# Altium schematic symbol library XSS_IC.SchLib: 440 symbols (part 1 of 4)
Pins are listed as number, name and electrical type; pins without a type are passive.

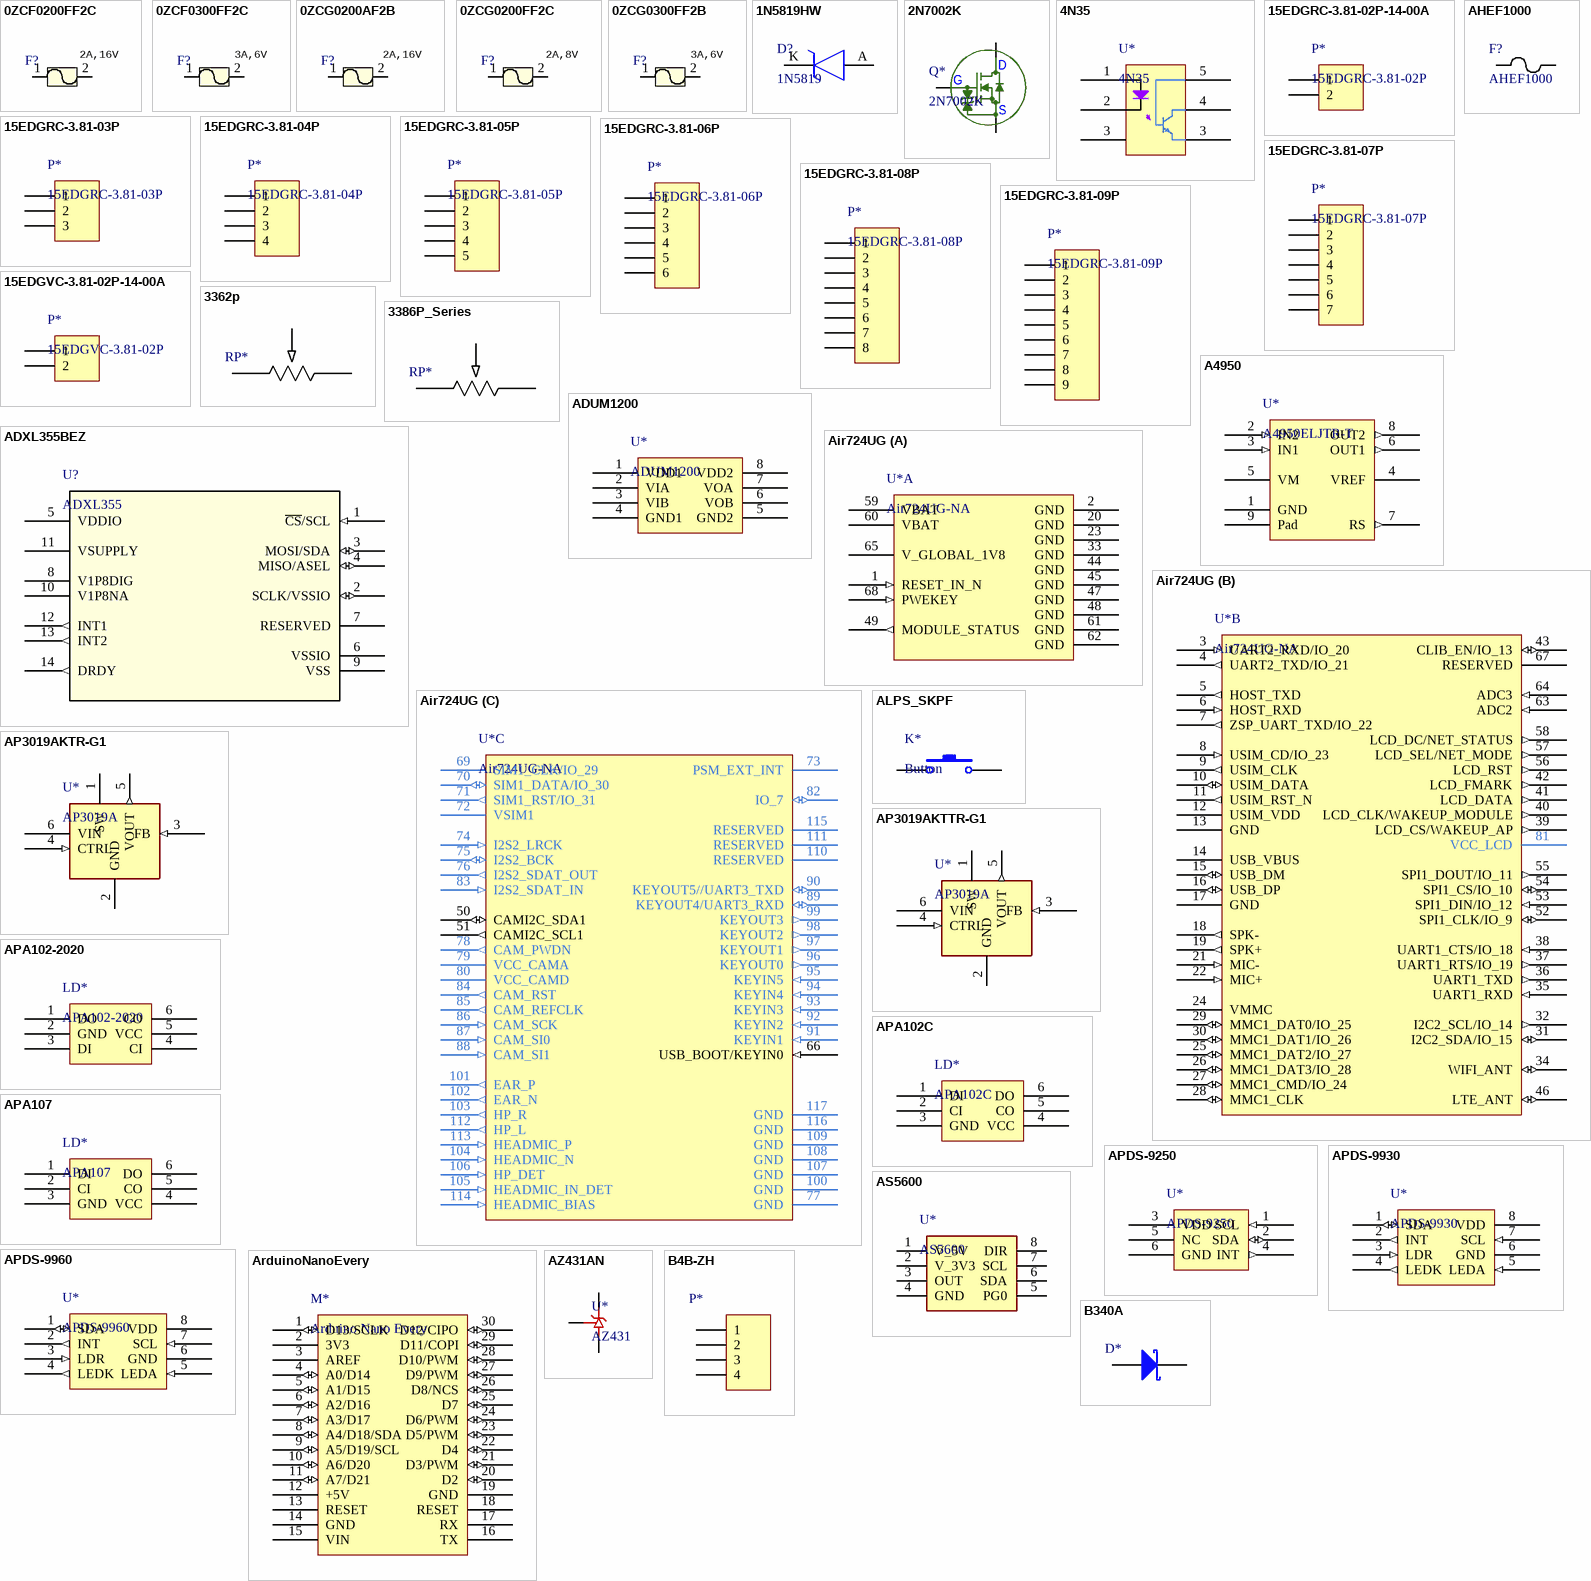
[diagram p0: symbols 0ZCF0200FF2C to B340A]

## 0ZCF0200FF2C
designator F?, comment value 2A,16V  (hidden comment: 0ZCG0200FF2C)
0ZCF0200FF2C, Bel Fuse, 16V,hold current 2A, 2920; Built_By: EMA_UL_Team; Type: DEV; C: Copyright (C) 2016 Accelerated Designs. All rights reserved; Vendor: Belfuse; Manufacturer_Part_Number: 0ZCG0200FF2C; RefDes: RefDes
footprint Fuse_2920 (Bel Fuse 0ZCF Series 2920(7555))
pins: 1, 2

## 0ZCF0300FF2C
designator F?  value 3A,6V  (hidden comment: 0ZCF0300FF2C)
0ZCF0300FF2C, Bel Fuse, 6V,hold current 3A, 2920; Manufacturer_Part_Number: 0ZCG0200FF2C; Built_By: EMA_UL_Team; Type: DEV; C: Copyright (C) 2016 Accelerated Designs. All rights reserved; Vendor: Belfuse; RefDes: RefDes
footprint Fuse_2920 (Bel Fuse 0ZCF Series 2920(7555))
pins: 1, 2

## 0ZCG0200AF2B
designator F?  value 2A,16V  (hidden comment: 0ZCG0200AF2B)
0ZCG0200AF2B, Bel Fuse, 16V,hold current 2A, 1812; Manufacturer_Part_Number: 0ZCG0200FF2C; Built_By: EMA_UL_Team; Type: DEV; C: Copyright (C) 2016 Accelerated Designs. All rights reserved; Vendor: Belfuse; RefDes: RefDes
footprint FUSE_1812 (Bel Fuse OZCG Series 1812(4532))
pins: 1, 2

## 0ZCG0200FF2C
designator F?  value 2A,8V  (hidden comment: 0ZCG0200FF2C)
0ZCJ0200FF2C, Bel Fuse, 8V,hold current 2A, 1812; Built_By: EMA_UL_Team; Type: DEV; C: Copyright (C) 2016 Accelerated Designs. All rights reserved; Vendor: Belfuse; Manufacturer_Part_Number: 0ZCG0200FF2C; RefDes: RefDes
footprint FUSE_1812 (Bel Fuse OZCG Series 1812(4532))
pins: 1, 2

## 0ZCG0300FF2B
designator F?, comment value 3A,6V  (hidden comment: 0ZCG0200FF2C)
0ZCG0300FF2B, Bel Fuse, 6V,hold current 3A, 1812; Built_By: EMA_UL_Team; Type: DEV; C: Copyright (C) 2016 Accelerated Designs. All rights reserved; Vendor: Belfuse; Manufacturer_Part_Number: 0ZCG0200FF2C; RefDes: RefDes
footprint FUSE_1812 (Bel Fuse OZCG Series 1812(4532))
pins: 1, 2

## 1N5819HW
designator D?, comment 1N5819
TVS Diode (Uni-directional); Manufacturer_Name: Vishay; Manufacturer_Part_Number: SMAJ5.0A-E3/5A; Allied_Number: R1082574; Datasheet Link: http://www.vishay.com/docs/88390/smaj50a.pdf; Height: 2.29mm; Mouser1 Part Number: 625-SMAJ5.0A-E3/5A; Mouser1 Price/Stock: https://www.mouser.com/Search/Refine.aspx?Keyword=625-SMAJ5.0A-E3%2F5A; RS Part Number: 7103484P; RS Price/Stock: http://uk.rs-online.com/web/p/products/7103484P; Allied Price/Stock: https://www.alliedelec.com/vishay-dale-smaj5-0a-e3-5a/R1082574/
footprint SOD-123 (vishay diode)
pins: A, K

## 2N7002K
designator Q*
Onsemi, 2N7002K, 60 V, 380 mA, Single, N−Channel, SOT−23 Small Signal MOSFET with ESD Protected.
footprint 2N7002K_ONS
pins: 1 G, 2 S, 3 D

## 4N35
designator U*
Optocoupler, Phototransistor Output, with Base Connection
footprint OC-DIP6 (PHOTOCOUPLER package DIP-4)
pins: 1 A, 2 K, 3 S, 3 NC, 4 C, 5 B

## 15EDGRC-3.81-02P-14-00A
designator P*, comment 15EDGRC-3.81-02P
Degson 3.81mm terminal/header.15EDGRC-3.81-02P-14-00A, 2p,3.81mm gap
footprint 15EDGRC-3.81-02P (90°,3.81间距，2P，外形尺寸8.41x7x9.2)
pins: 1, 2

## 15EDGRC-3.81-03P
designator P*
Degson 3.81mm terminal/header.15EDGRC-3.81-03P-14-00A, 3p,3.81mm gap
footprint 15EDGRC-3.81-03P (90°,3.81间距, 3P，外形尺寸12.22x7x9.2)
pins: 1, 2, 3

## 15EDGRC-3.81-04P
designator P*
Degson 3.81mm terminal/header.15EDGRC-3.81-04P-14-00A, 4p,3.81mm gap
footprint 15EDGRC-3.81-04P (90°,3.81间距，4P，外形尺寸16.03x7x9.2)
pins: 1, 2, 3, 4

## 15EDGRC-3.81-05P
designator P*
Degson 3.81mm terminal/header.15EDGRC-3.81-05P-14-00A, 5p,3.81mm gap
footprint 15EDGRC-3.81-05P (90°,3.81间距, 5P，外形尺寸19.84x7x9.2)
pins: 1, 2, 3, 4, 5

## 15EDGRC-3.81-06P
designator P*
Degson 3.81mm terminal/header.15EDGRC-3.81-06P-14-00A, 6p,3.81mm gap
footprint 15EDGRC-3.81-06P (90°,3.81间距, 6P，外形尺寸23.65x7x9.2)
pins: 1, 2, 3, 4, 5, 6

## 15EDGRC-3.81-07P
designator P*
Degson 3.81mm terminal/header.15EDGRC-3.81-07P-14-00A, 7p,3.81mm gap
footprint 15EDGRC-3.81-07P (90°,3.81间距, 7P，外形尺寸27.46x7x9.2)
pins: 1, 2, 3, 4, 5, 6, 7

## 15EDGRC-3.81-08P
designator P*
Degson 3.81mm terminal/header.15EDGRC-3.81-08P-14-00A, 8p, 3.81mm gap
footprint 15EDGRC-3.81-08P (90°,3.81间距, 8P，外形尺寸31.27x7x9.2)
pins: 1, 2, 3, 4, 5, 6, 7, 8

## 15EDGRC-3.81-09P
designator P*
Degson 3.81mm terminal/header.15EDGRC-3.81-09P-14-00A, 9p, 3.81mm gap
footprint 15EDGRC-3.81-09P (90°,3.81间距, 9P，外形尺寸35.08x7x9.2)
pins: 1, 2, 3, 4, 5, 6, 7, 8, 9

## 15EDGVC-3.81-02P-14-00A
designator P*, comment 15EDGVC-3.81-02P
Degson 3.81mm terminal/header.15EDGVC-3.81-02P-14-00A, 2p,3.81mm gap
footprint 15EDGVC-3.81-02P (3.81间距，2P，直插，外形尺寸8.41x9.2x7)
pins: 1, 2

## 3362p
designator RP*, comment POT_3362P  (value not drawn)
Bourns 3362P  Trimming Potentiometers - Single-turn; Value: 50K
footprint 3362P_POT (bourns 3362p potentiometer)
pins: 1, 2, 3

## 3386P_Series
designator RP*, comment POT_3386P  (value not drawn)
Bourns 3386P  Trimming Potentiometers - Single-turn; Value: 50K
footprint 3386P_POT (bourns 3386p potentiometer)
pins: 1, 2, 3

## A4950
designator U*, comment A4950ELJTR-T
A4950,Allegro Micro,Designed for pulse width modulated (PWM) control of DC / motors, the A4950 is capable of peak output currents to ±3.5A / and operating voltages to 40 V
footprint SOICN-8 (SOIC-8 with EP, AllegroMicro Package name)
pins: 1 GND (power), 2 IN2 (in), 3 IN1 (in), 4 VREF (power), 5 VM (power), 6 OUT1 (out), 7 RS (out), 8 OUT2 (out), 9 Pad

## ADUM1200
designator U*
ADI: ADUM1200 ,Dual-Channel Digital Isolators, R-8
pins: 1 VDD1, 2 VIA, 3 VIB, 4 GND1, 5 GND2, 6 VOB, 7 VOA, 8 VDD2

## ADXL355BEZ
designator U?, comment ADXL355
Analog Devices Low Noise, Low Drift, Low Power, 3-Axis MEMS Accelerometers; Copyright: Copyright (C) 2018 Accelerated Designs. All rights reserved; RefDes: RefDes; Type: DEV; Value: Value
footprint E_14_1
pins: 1 ~{CS}/SCL (in), 2 SCLK/VSSIO (io), 3 MOSI/SDA (io), 4 MISO/ASEL (io), 5 VDDIO (power), 6 VSSIO (power), 7 RESERVED, 8 V1P8DIG (power), 9 VSS (power), 10 V1P8NA (power), 11 VSUPPLY (power), 12 INT1 (out), 13 INT2 (out), 14 DRDY (out)

## AHEF1000
designator F?
LittleFuse or Tyco, 32V with 10A Hold Current; Vendor: TE Connectivity; Built_By: EMA_UL_Team; Value: 10A,32V; C: Copyright (C) 2015 Accelerated Designs. All rights reserved; Manufacturer_Part_Number: AHEF1000; Copyright: Copyright (C) 2016 Accelerated Designs. All rights reserved
footprint FUSE_AHEF1000
pins: 1, 2

## Air724UG
designator U*, comment Air724UG-NA
LUAT cat.1 model, Air724UG-NA, 24mm*24mm*2.3mm, 117pin
footprint LUAT_LCC_24x24_P177 (LUAT LCC package for Air724UG with 177 pins, 24mmx24mm)
part A pins: 1 RESET_IN_N (in), 2 GND (power), 20 GND (power), 23 GND (power), 33 GND (power), 44 GND (power), 45 GND (power), 47 GND (power), 48 GND (power), 49 MODULE_STATUS (out), 59 VBAT (power), 60 VBAT (power), 61 GND (power), 62 GND (power), 65 V_GLOBAL_1V8 (power), 68 PWEKEY (in)
part B pins: 3 UART2_RXD/IO_20 (in), 4 UART2_TXD/IO_21 (out), 5 HOST_TXD (out), 6 HOST_RXD (in), 7 ZSP_UART_TXD/IO_22 (out), 8 USIM_CD/IO_23 (in), 9 USIM_CLK (out), 10 USIM_DATA (io), 11 USIM_RST_N (out), 12 USIM_VDD (power), 13 GND (power), 14 USB_VBUS (power), 15 USB_DM (io), 16 USB_DP (io), 17 GND (power), 18 SPK- (out), 19 SPK+ (out), 21 MIC- (in), 22 MIC+ (in), 24 VMMC (power), 25 MMC1_DAT2/IO_27 (io), 26 MMC1_DAT3/IO_28 (io), 27 MMC1_CMD/IO_24 (io), 28 MMC1_CLK (io), 29 MMC1_DAT0/IO_25 (io), 30 MMC1_DAT1/IO_26 (io), 31 I2C2_SDA/IO_15 (io), 32 I2C2_SCL/IO_14 (out), 34 WIFI_ANT (io), 35 UART1_RXD (in), 36 UART1_TXD (out), 37 UART1_RTS/IO_19 (out), 38 UART1_CTS/IO_18 (in), 39 LCD_CS/WAKEUP_AP (out), 40 LCD_CLK/WAKEUP_MODULE (out), 41 LCD_DATA (out), 42 LCD_FMARK (out), 43 CLIB_EN/IO_13 (io), 46 LTE_ANT (io), 52 SPI1_CLK/IO_9 (io), 53 SPI1_DIN/IO_12 (in), 54 SPI1_CS/IO_10 (io), 55 SPI1_DOUT/IO_11 (out), 56 LCD_RST (out), 57 LCD_SEL/NET_MODE (out), 58 LCD_DC/NET_STATUS (out), 63 ADC2 (in), 64 ADC3 (in), 67 RESERVED, 81 VCC_LCD (power)
part C pins: 50 CAMI2C_SDA1 (io), 51 CAMI2C_SCL1 (out), 66 USB_BOOT/KEYIN0 (in), 69 SIM1_CLK/IO_29 (power), 70 SIM1_DATA/IO_30 (io), 71 SIM1_RST/IO_31 (out), 72 VSIM1 (power), 73 PSM_EXT_INT, 74 I2S2_LRCK (in), 75 I2S2_BCK (io), 76 I2S2_SDAT_OUT (out), 77 GND (power), 78 CAM_PWDN (out), 79 VCC_CAMA (power), 80 VCC_CAMD (power), 82 IO_7 (io), 83 I2S2_SDAT_IN (in), 84 CAM_RST (out), 85 CAM_REFCLK (out), 86 CAM_SCK (in), 87 CAM_SI0 (in), 88 CAM_SI1 (in), 89 KEYOUT4/UART3_RXD (io), 90 KEYOUT5//UART3_TXD (io), 91 KEYIN1 (in), 92 KEYIN2 (in), 93 KEYIN3 (in), 94 KEYIN4 (in), 95 KEYIN5 (in), 96 KEYOUT0 (out), 97 KEYOUT1 (out), 98 KEYOUT2 (out), 99 KEYOUT3 (out), 100 GND (power), 101 EAR_P (out), 102 EAR_N (out), 103 HP_R (out), 104 HEADMIC_N (in), 105 HEADMIC_IN_DET (in), 106 HP_DET (in), 107 GND (power), 108 GND (power), 109 GND (power), 110 RESERVED, 111 RESERVED, 112 HP_L (out), 113 HEADMIC_P (in), 114 HEADMIC_BIAS (in), 115 RESERVED, 116 GND (power), 117 GND (power)

## ALPS_SKPF
designator K*, comment Button
ALPS, SKPF Series,SKPFACA010(1.96N) or SKPFAAA010(3.92N)
footprint ALPS_SKPF
pins: 1, 2

## AP3019AKTR-G1
designator U*, comment AP3019A
DIODES, AP3019AKTR-G1, The AP3019A is an inductor-based DC/DC converter designed to drive up to eight white LEDs in series for backlight. Only one feedback resistor is needed to control the LED current and obtain  required brightness. SOT-23-6
footprint SOT-23-6
pins: 1 SW, 2 GND, 3 FB (in), 4 CTRL (in), 5 VOUT (out), 6 VIN (power)

## AP3019AKTTR-G1
designator U*, comment AP3019A
DIODES, AP3019AKTR-G1, The AP3019A is an inductor-based DC/DC converter designed to drive up to eight white LEDs in series for backlight. Only one feedback resistor is needed to control the LED current and obtain  required brightness. TSOT-23-6
footprint TSOT-23-6
pins: 1 SW, 2 GND, 3 FB (in), 4 CTRL (in), 5 VOUT (out), 6 VIN (power)

## APA102-2020
designator LD*
APA102, Smart LED with 2020 Size . Can be 6Pins or 8Pins
footprint LED2020_6P (APA102-2020 Smart RGB  LED with 6 pins)
footprint LED2020_8P (APA102-2020 Smart RGB  LED with 8 pins)
pins: 1 DO, 2 GND, 3 DI, 4 CI, 5 VCC, 6 CO

## APA102C
designator LD*
APA102, Smart LED with 5050 Size and FOSC is 800~1200 KHz
footprint LED5050_6P (APA102C/APA107(5050size) Smart RGB  LED with 6 pins)
pins: 1 DI, 2 CI, 3 GND, 4 VCC, 5 CO, 6 DO

## APA107
designator LD*
APA107, Smart LED with 5050 Size and the max FOSC is 30MHz. And the current is 20mA per channel.
footprint LED5050_6P (APA102C/APA107(5050size) Smart RGB  LED with 6 pins)
pins: 1 DI, 2 CI, 3 GND, 4 VCC, 5 CO, 6 DO

## APDS-9250
designator U*
The APDS-9250 device uses 4 individual channels of red, / green, blue, and IR (RGB+IR) in a specially designed matrix / arrangement.
footprint APDS-9250 (Broadcom APDS-9250 package, 2mmx2mmx0.65mm)
pins: 1 SCL (in), 2 SDA (io), 3 VDD (power), 4 INT (out), 5 NC, 6 GND (power)

## APDS-9930
designator U*
APDS-9930 is a Integrated Ambient Light and Proximity Sensors from Broadcom
footprint APDS-9930
pins: 1 SDA (io), 2 INT (out), 3 LDR (in), 4 LEDK (out), 5 LEDA (in), 6 GND (power), 7 SCL (in), 8 VDD (power)

## APDS-9960
designator U*
APDS-9960 is The APDS-9960 device features advanced Gesture detection, Proximity detection, Digital Ambient Light Sense / (ALS) and Color Sense (RGBC).
footprint APDS-9960
pins: 1 SDA (io), 2 INT (out), 3 LDR (in), 4 LEDK (out), 5 LEDA (in), 6 GND (power), 7 SCL (in), 8 VDD (power)

## ArduinoNanoEvery
designator M*, comment Arduino Nano Every
Arduino Nano Every Board
footprint Arduino_Nano_Every
pins: 1 D13/SCLK (io), 2 3V3 (power), 3 AREF (power), 4 A0/D14 (io), 5 A1/D15 (io), 6 A2/D16 (io), 7 A3/D17 (io), 8 A4/D18/SDA (io), 9 A5/D19/SCL (io), 10 A6/D20 (io), 11 A7/D21 (io), 12 +5V (power), 13 RESET, 14 GND (power), 15 VIN (power), 16 TX (power), 17 RX (power), 18 RESET (power), 19 GND (power), 20 D2 (io), 21 D3/PWM (io), 22 D4 (io), 23 D5/PWM (io), 24 D6/PWM (io), 25 D7 (io), 26 D8/NCS (io), 27 D9/PWM (io), 28 D10/PWM (io), 29 D11/COPI (io), 30 D12/CIPO (io)

## AS5600
designator U*
AMS, AS5600, 12-bit on-axis magnetic rotary position sensor with analog or PWM output.
footprint SOIC_D8 (TI SOIC-D8)
pins: 1 V_5V, 2 V_3V3, 3 OUT, 4 GND, 5 PG0, 6 SDA, 7 SCL, 8 DIR

## AZ431AN
designator U*, comment AZ431
DISDES, ADJUSTABLE PRECISION SHUNT REGULATORS, 0.4%, 20PPM/℃, SOT23
footprint SOT23 (Different with SOT-3 here. It is the normal pin sequence)
pins: 1, 2, 3

## B4B-ZH
designator P*  (value not drawn)
JST ZH Series, 1.5mm Gap, Top Entry, 4Pins
footprint B4B-ZR (JST ZH series, Gap 1.5mm, 4Pins, Top Entry)
footprint B4B-ZR-3.4 (JST ZH series, Gap 1.5mm, 4Pins, Top Entry with Long Solder Tail)
pins: 1, 2, 3, 4

## B340A
designator D*  (value not drawn)
B340A,Schottky diodes, 3A, 40V,forward voltage 500mv@3A,SMA Package
footprint SMA (SMA diode)
pins: A, K

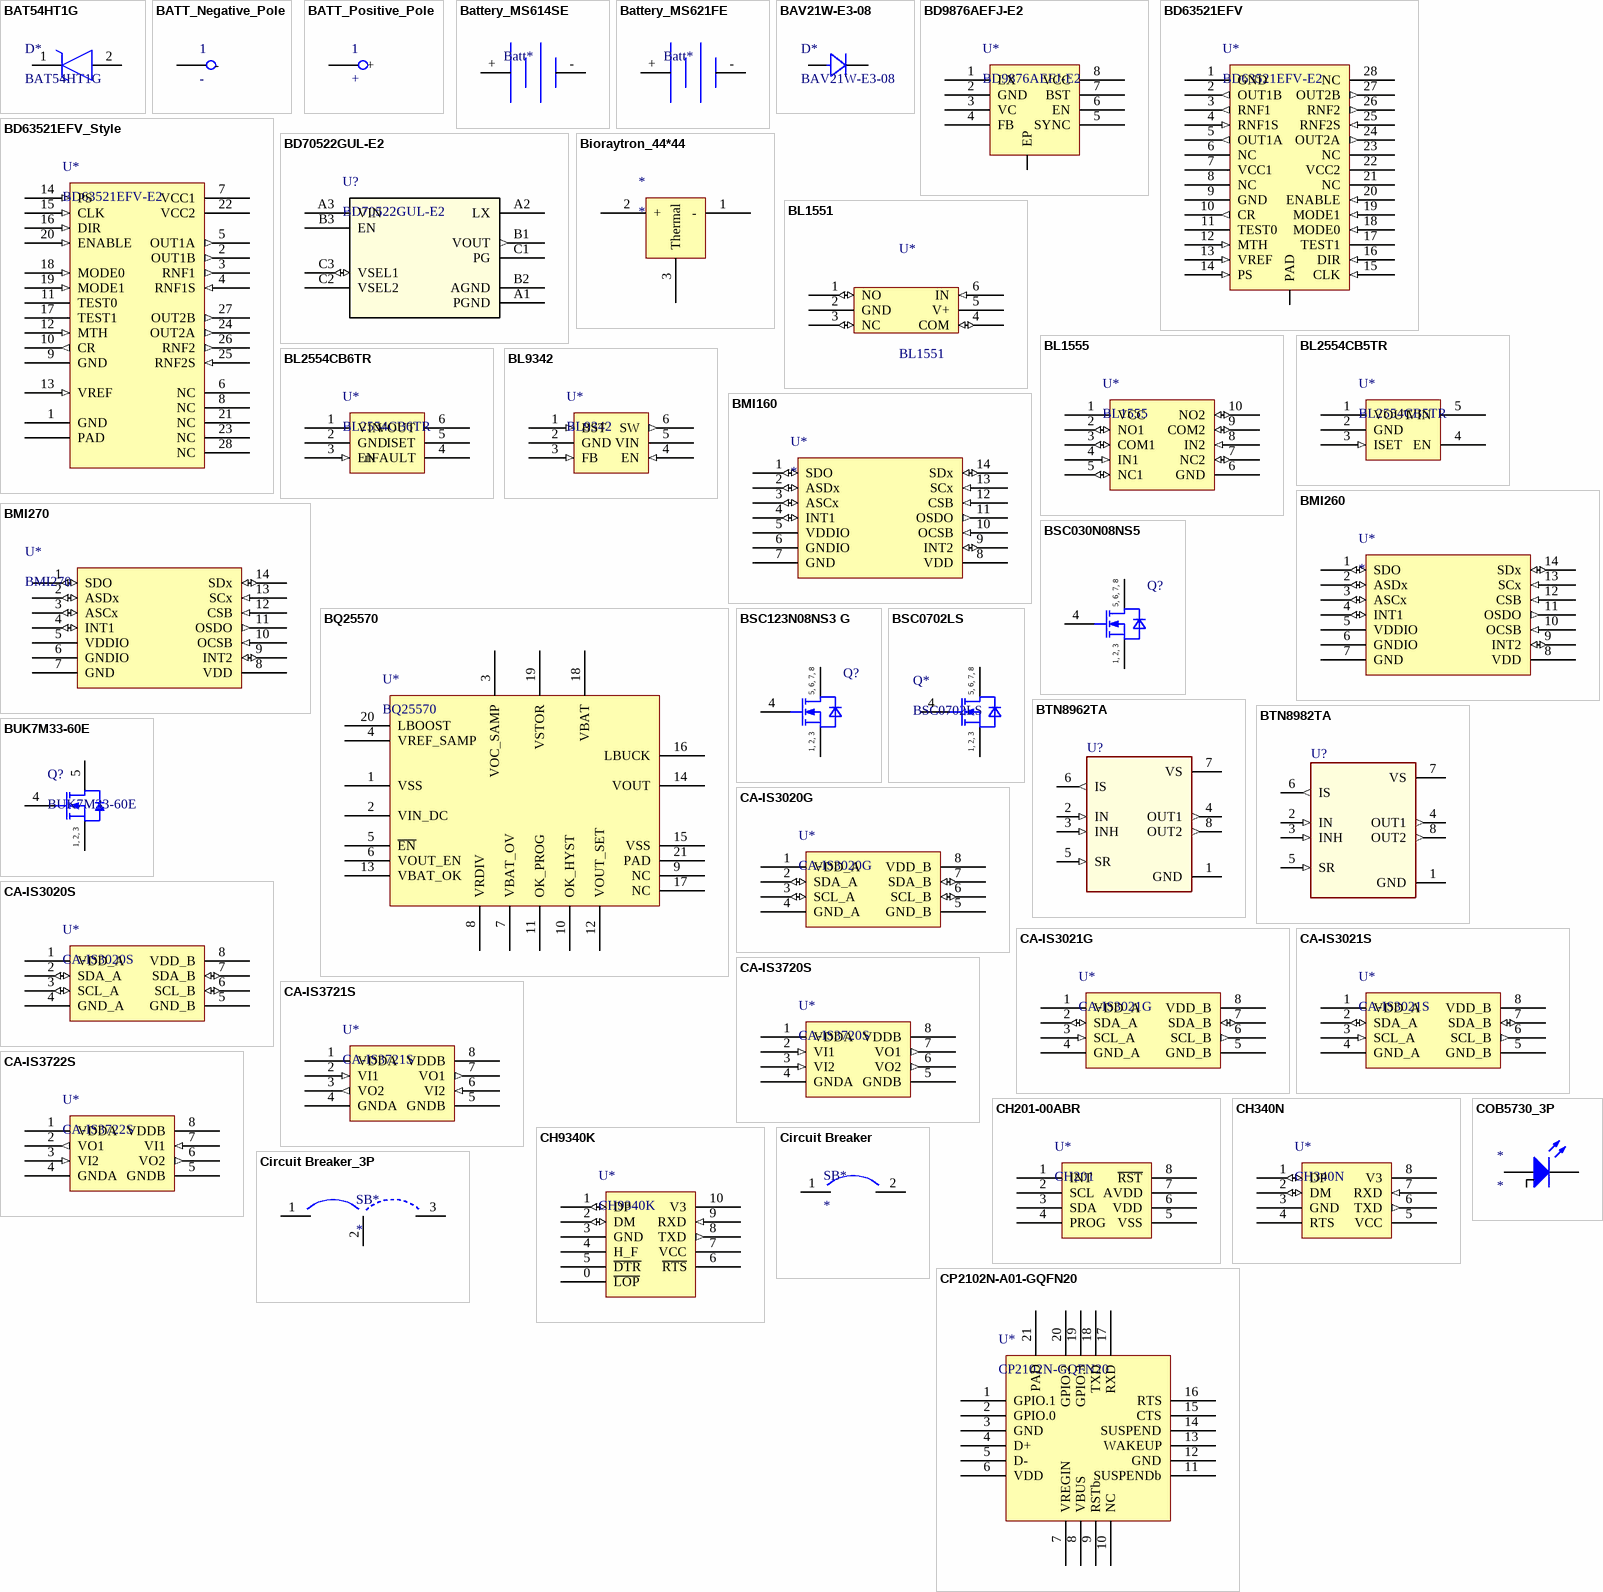
[diagram p1: symbols BAT54HT1G to CP2102N-A01-GQFN20]

## BAT54HT1G
designator D*
ONSEMI, BAT54HT1G, Schottky Barrier Diodes, VF=0.35V@10mA, SOD-323
footprint SOD-323 (vishay diode)
pins: 1 K, 2 A

## BATT_Negative_Pole
designator 1, comment -
Batt positive pole
footprint Batt_TouchPlane_Negtive
pins: 1 -

## BATT_Positive_Pole
designator 1, comment +
Batt positive pole
footprint Batt_TouchPlane_Positive
pins: 1 +

## Battery_MS614SE
designator Batt*, comment MS621FE FL28E  (value not drawn)
SEIKO MS614SE FL28E is a 3v  Lithium Rechargeable Battery. Charge voltage is from 2.8v to 3.3v.
footprint MS614SE (SEIKO Lithium Rechargeable Battery MS614SE. Diameter:6.8mm and Height: 1.4mm)
pins: + Positive, - Negative

## Battery_MS621FE
designator Batt*, comment MS621FE FL11E  (value not drawn)
SEIKO MS621FE FL11E is a 3v  Lithium Rechargeable Battery. Charge voltage is from 2.8v to 3.3v.
footprint MS621FE (SEIKO Lithium Rechargeable Battery MS621FE. Diameter:6.8mm and Height: 2.1mm)
pins: + Positive, - Negative

## BAV21W-E3-08
designator D*
Vishay BAV21W-E3-08, Small Signal Switching Diodes, High Voltage; Manufacturer_Part_Number: BAV21W-V-GS08; Built_By: EMA_UL_Team; Vendor: Vishay; Copyright: Copyright (C) 2018 Accelerated Designs. All rights reserved; RefDes: RefDes; Type: DEV; Value: Value
footprint SOD-123 (vishay diode)
pins: A, K

## BD9876AEFJ-E2
designator U*
ROHM Semiconductor,7V to 42V Input Voltage Range 3.0A Output Current Integrated FET / 1ch Buck Converter
footprint HTSOP-J8 (ROHM,HTSOP-J8)
pins: 1 LX (power), 2 GND (power), 3 VC (power), 4 FB (power), 5 SYNC (power), 6 EN (power), 7 BST (power), 8 VCC (power), 9 EP (power)

## BD63521EFV
designator U*, comment BD63521EFV-E2
BD63521EFV series are stepping motor drivers of 1/16 / micro step(sixteenth step) drive. As for its basic / function, it is a low power consumption bipolar PWM / constant current-drive driver with power supply rated / voltage of 36V and rated output current (DC) of 2.0A. / The input interface is CLK-IN type
footprint HTSSOP-B28 (Rohm Motor Driver Package:HTSSOP-B28)
pins: 1 GND (power), 2 OUT1B (out), 3 RNF1 (out), 4 RNF1S (in), 5 OUT1A (out), 6 NC, 7 VCC1 (power), 8 NC, 9 GND (power), 10 CR (out), 11 TEST0, 12 MTH (in), 13 VREF (in), 14 PS (in), 15 CLK (in), 16 DIR (in), 17 TEST1, 18 MODE0 (in), 19 MODE1 (in), 20 ENABLE (in), 21 NC, 22 VCC2 (power), 23 NC, 24 OUT2A (out), 25 RNF2S (in), 26 RNF2 (out), 27 OUT2B (out), 28 NC, 29 PAD (power)

## BD63521EFV_Style
designator U*, comment BD63521EFV-E2
BD63521EFV series are stepping motor drivers of 1/16 / micro step(sixteenth step) drive. As for its basic / function, it is a low power consumption bipolar PWM / constant current-drive driver with power supply rated / voltage of 36V and rated output current (DC) of 2.0A. / The input interface is CLK-IN type
footprint HTSSOP-B28 (Rohm Motor Driver Package:HTSSOP-B28)
pins: 1 GND (power), 2 OUT1B (out), 3 RNF1 (out), 4 RNF1S (in), 5 OUT1A (out), 6 NC, 7 VCC1 (power), 8 NC, 9 GND (power), 10 CR (out), 11 TEST0, 12 MTH (in), 13 VREF (in), 14 PS (in), 15 CLK (in), 16 DIR (in), 17 TEST1, 18 MODE0 (in), 19 MODE1 (in), 20 ENABLE (in), 21 NC, 22 VCC2 (power), 23 NC, 24 OUT2A (out), 25 RNF2S (in), 26 RNF2 (out), 27 OUT2B (out), 28 NC, 29 PAD (power)

## BD70522GUL-E2
designator U?
Rohm LDO; Vendor: ROHM Semiconductor; Built_By: EMA_Molly; Manufacturer_Part_Number: BD70522GUL-E2; Copyright: Copyright (C) 2018 Accelerated Designs. All rights reserved; RefDes: RefDes; Type: DEV; Value: Value
footprint VCSP50L1C
pins: A1 PGND, A2 LX, A3 VIN, B1 VOUT (out), B2 AGND, B3 EN, C1 PG, C2 VSEL2, C3 VSEL1 (io)

## Bioraytron_44*44
designator *
footprint bioraytron_44*44 (This pad is suit for UVC LED made by bioraytron. Like B44LD8C1CS0、B44RD7C1CS0 and so on)
pins: 1 -, 2 +, 3 Thermal

## BL1551
designator U*
2.7-Ohm SPDT Analog Switch,SC70-6,1.8~5.5V; Manufacturer_Part_Number: TS5A3159DCKR; GENERIC_PART_NUMBER: TS5A3159; Vendor: Texas Instruments; PIN_COUNT: 6; FAMILY_NAME: ANALOG SWITCH OR MULTIPLEXER (less than or equal to 5V); INDUSTRY_STD_PKG_TYPE: SC70; PACKAGE_DESIGNATOR: DCK; Datasheet_URL: http://www.ti.com/lit/gpn/TS5A3159; Manufacturer: Texas Instruments; Copyright: Copyright (C) 2021 Accelerated Designs. All rights reserved; RefDes: RefDes; Type: DEV
footprint TI_DCK6 (TI DCK6, SC70-6)
pins: 1 NO (io), 2 GND (power), 3 NC (io), 4 COM (io), 5 V+ (power), 6 IN (in)

## BL1555
designator U*
Shanghai BEILING, Ultra Low ON-Resistance, / Low Voltage, Dual, SPDT Analog Switch, MSOP-10, 1.65~5.5V, 0.3 ohm; Manufacturer_Part_Number: TS5A23157RSER; GENERIC_PART_NUMBER: TS5A23157; Vendor: Texas Instruments; PACKAGE_DESIGNATOR: RSE; PIN_COUNT: 10; FAMILY_NAME: ANALOG SWITCH OR MULTIPLEXER (less than or equal to 5V); INDUSTRY_STD_PKG_TYPE: UQFN; Datasheet_URL: http://www.ti.com/lit/gpn/TS5A23157; Manufacturer: Texas Instruments; Copyright: Copyright (C) 2021 Accelerated Designs. All rights reserved; RefDes: RefDes; Type: DEV
footprint TI_DGS10 (TI, DGS-10P, VSSOP-10(MSOP-10))
pins: 1 VCC (power), 2 NO1 (io), 3 COM1 (io), 4 IN1 (in), 5 NC1 (io), 6 GND (power), 7 NC2 (io), 8 IN2 (in), 9 COM2 (io), 10 NO2 (io)

## BL2554CB5TR
designator U*
SHANGHAI BEILING,BL2554, Adjustable USB Load Current Switch. SOT23-5; ComponentLink1Description: Datasheet; ComponentLink1URL: https://www.richtek.com/assets/product_file/RT9193/DS9193-17.pdf; ComponentLink2Description: Website; ComponentLink2URL: https://www.richtek.com/Products/Linear%20Regulator/Single%20Output%20Linear%20Regulator/RT9193?sc_lang=en
footprint SOT23-5
pins: 1 VOUT (power), 2 GND (power), 3 ISET (in), 4 EN, 5 VIN (power)

## BL2554CB6TR
designator U*
SHANGHAI BEILING,BL2554, Adjustable USB Load Current Switch. BL2554CB6TR: SOT23-6; ComponentLink1Description: Datasheet; ComponentLink1URL: https://www.richtek.com/assets/product_file/RT9193/DS9193-17.pdf; ComponentLink2Description: Website; ComponentLink2URL: https://www.richtek.com/Products/Linear%20Regulator/Single%20Output%20Linear%20Regulator/RT9193?sc_lang=en
footprint SOT-23-6
pins: 1 VIN (power), 2 GND (power), 3 EN (in), 4 nFAULT, 5 ISET (power), 6 VOUT (power)

## BL9342
designator U*
belling,BL9342 40V, 600mA Step-Down Converter. Package:SOT23-6L. Input:4.2~40v,1.8MHz,Iq 230uA, 90%
footprint SOT23-6L
footprint SOT-23-6
pins: 1 BST (in), 2 GND (power), 3 FB (in), 4 EN (in), 5 VIN (power), 6 SW (out)

## BMI160
designator U*
Bosch Sensortec. The BMI160 is a small, low power, low noise 16-bit inertial measurement unit designed for use in mobile applications like augmented reality or indoor navigation which require highly accurate, real-time sensor data.
footprint LGA14L-2.5x3x0.86
pins: 1 SDO (io), 2 ASDx (io), 3 ASCx (io), 4 INT1 (io), 5 VDDIO (power), 6 GNDIO (power), 7 GND (power), 8 VDD (power), 9 INT2 (io), 10 OCSB (in), 11 OSDO (out), 12 CSB (in), 13 SCx (in), 14 SDx (io)

## BMI260
designator U*
Bosch Sensortec. BMI260 is an ultra-low power IMU that combines precise acceleration and angular rate measurement with intelligent on-chip motion-triggered interrupt features. The 6-axis sensor combines a 16-bit triaxial gyroscope and a 16-bit triaxial accelerometer in a compact 2.5 x 3.0 x 0.8 mm³ LGA package.
footprint LGA14L-2.5x3x0.86
pins: 1 SDO (io), 2 ASDx (io), 3 ASCx (io), 4 INT1 (io), 5 VDDIO (power), 6 GNDIO (power), 7 GND (power), 8 VDD (power), 9 INT2 (io), 10 OCSB (in), 11 OSDO (out), 12 CSB (in), 13 SCx (in), 14 SDx (io)

## BMI270
designator U*
Bosch Sensortec. BMI270 is an ultra-low power IMU that combines precise acceleration and angular rate measurement with intelligent on-chip motion-triggered interrupt features. The 6-axis sensor combines a 16-bit triaxial gyroscope and a 16-bit triaxial accelerometer in a compact 2.5 x 3.0 x 0.85 mm³ LGA package.
footprint LGA14L-2.5x3x0.86
pins: 1 SDO (io), 2 ASDx (io), 3 ASCx (io), 4 INT1 (io), 5 VDDIO (power), 6 GNDIO (power), 7 GND (power), 8 VDD (power), 9 INT2 (io), 10 OCSB (in), 11 OSDO (out), 12 CSB (in), 13 SCx (in), 14 SDx (io)

## BQ25570
designator U*
bq25570 nano power boost charger and buck converter / for energy harvester powered applications
footprint RGR0020A
footprint RGR0020A_NV
pins: 1 VSS, 2 VIN_DC, 3 VOC_SAMP, 4 VREF_SAMP, 5 ~{EN}, 6 VOUT_EN, 7 VBAT_OV, 8 VRDIV, 9 NC, 10 OK_HYST, 11 OK_PROG, 12 VOUT_SET, 13 VBAT_OK, 14 VOUT, 15 VSS, 16 LBUCK, 17 NC, 18 VBAT, 19 VSTOR, 20 LBOOST, 21 PAD

## BSC030N08NS5
designator Q?  (value not drawn)
OptiMOS 5 Power-Transistor, 80V; Manufacturer: Infineon Technologies; ManufacturerPartNumber: BSC030N08NS5; PackageReference: PG-TDSON-8(Super SO8)
footprint INF-PG-TDSON-8-SSO8
pins: 1 SOURCE, 2 SOURCE, 3 SOURCE, 4 GATE, 5 DRAIN, 6 DRAIN, 7 DRAIN, 8 DRAIN
text: 5, 6, 7, 8; 1, 2, 3

## BSC123N08NS3 G
designator Q?  (value not drawn)
OptiMOS 3 Power-Transistor, VDS 80V; Manufacturer: Infineon Technologies; ManufacturerPartNumber: BSC123N08NS3 G; PackageReference: PG-TDSON-8-5
footprint INF-PG-TDSON-8
pins: 1 SOURCE, 2 SOURCE, 3 SOURCE, 4 GATE, 5 DRAIN, 6 DRAIN, 7 DRAIN, 8 DRAIN
text: 5, 6, 7, 8; 1, 2, 3

## BSC0702LS
designator Q*
Infineon, BSC0702LS, OptiMOS™ low-voltage power MOSFETs - perfectly addressing the needs of charger and adapter designs, SuperSO8(PG-TDSON-8) with size 5.9mm x 5.15mm
footprint INF-PG-TDSON-8 (TDSON 8, 1.27mm pitch; 8 pin,5.15 mm W X 5.9 mm L X 1.10 mm H body)
pins: 1 SOURCE, 2 SOURCE, 3 SOURCE, 4 GATE, 5 DRAIN, 6 DRAIN, 7 DRAIN, 8 DRAIN
text: 5, 6, 7, 8; 1, 2, 3

## BTN8962TA
designator U?  (value not drawn)
Infineon, High Current PN Half Bridge NovalithIC; Manufacturer: Infineon Technologies; ManufacturerPartNumber: BTN8962TA; PackageReference: PG-TO263-7-1
footprint TO127P1500X440-8N-1 (TO,1.27mm pitch;7 pin,15.00mm L X 9.25mm W X 4.40mm H body)
pins: 1 GND (power) "Ground", 2 IN (in) "Input", 3 INH (in) "Inhibit", 4 OUT1 (out) "Power Output of the Bridge", 5 SR (in) "Slew Rate", 6 IS (out) "Current Sense and Diagnostics", 7 VS (power) "Supply", 8 OUT2 (out) "Power Output of the Bridge"

## BTN8982TA
designator U?  (value not drawn)
Infineon, High Current PN Half Bridge NovalithIC; Manufacturer: Infineon Technologies; ManufacturerPartNumber: BTN8982TA; PackageReference: PG-TO263-7-1
footprint TO127P1500X440-8N-1
pins: 1 GND (power) "Ground", 2 IN (in) "Input", 3 INH (in) "Inhibit", 4 OUT1 (out) "Power Output of the Bridge", 5 SR (in) "Slew Rate", 6 IS (out) "Current Sense and Diagnostics", 7 VS (power) "Supply", 8 OUT2 (out) "Power Output of the Bridge"

## BUK7M33-60E
designator Q?
Nexperia, BUK7M33-60E: N-channel 60 V, 33 mΩ standard level MOSFET in LFPAK33. drain current 24A. Vgs threshold is 3V.; Manufacturer: NXP Semiconductors; PartNumber: BUK7M33-60EX; Channel Type: N; Ciss [typ] (pF): 655; Coss [typ] (pF): 578; ID [max] (A): 57; Packing: Reel; Qr [typ] (nC): 11; VDS [max] (V): 60; VGSth [typ] (V): 3; PackageVersion: 14-04-25, 04/2014; PackageReference: SOT1210; PackageDescription: 8-Pin Plastic Single-ended Surface Mounted Package, Body 3.3 x 2.6 mm, Pitch 0.65 mm; Supplier 1: Digi-Key; Supplier Part Number 1: 1727-7314-2-ND; Supplier 2: Digi-Key; Supplier Part Number 2: 1727-7314-2-ND; Supplier 3: Element14; Supplier Part Number 3: 2760370; Supplier 4: Newark; Supplier Part Number 4: BUK7M33-60EX; Supplier 5: Mouser; Supplier Part Number 5: BUK7M33-60EX; Mounting Technology: Surface Mount; ComponentLink1Description: Manufacturer URL; ComponentLink1URL: http://www.nxp.com/; ComponentLink2Description: Datasheet; ComponentLink2URL: http://www.nxp.com/documents/data_sheet/PSMN7R5-30MLD.pdf; ComponentLink3Description: Package Specification; ComponentLink3URL: http://www.nxp.com/documents/outline_drawing/sot1210_po.pdf
footprint NXP-SOT1210_N (DPAK, 5-Leads, Body 3.4x2.7mm, Pitch 0.65mm, IPC Medium Density)
footprint NXP-SOT1210_L (DPAK, 5-Leads, Body 3.4x2.7mm, Pitch 0.65mm, IPC High Density)
footprint NXP-SOT1210_M (DPAK, 5-Leads, Body 3.4x2.7mm, Pitch 0.65mm, IPC Low Density)
pins: 1 S "source", 2 S "source", 3 S "source", 4 G "gate", 5 D "mounting base; connected to drain"
text: 1, 2, 3

## CA-IS3020G
designator U*
川土微,低功耗双向通讯 I2C 总线隔离器,2MHz, 3~5.5V, wide SOIC8
footprint SOIC_8W_5.9x7.3mm (SOIC-8 wide package. chip size:5.9x7.3mm)
pins: 1 VDD_A (power), 2 SDA_A (io), 3 SCL_A (io), 4 GND_A (power), 5 GND_B (power), 6 SCL_B (io), 7 SDA_B (io), 8 VDD_B (power)

## CA-IS3020S
designator U*
川土微,低功耗双向通讯 I2C 总线隔离器,2MHz, 3~5.5V, SOIC8
footprint SOIC8_HV (ISO1211 or others package. SOIC-8)
pins: 1 VDD_A (power), 2 SDA_A (io), 3 SCL_A (io), 4 GND_A (power), 5 GND_B (power), 6 SCL_B (io), 7 SDA_B (io), 8 VDD_B (power)

## CA-IS3021G
designator U*
川土微,低功耗双向通讯 I2C 总线隔离器,2MHz, 3~5.5V, wide SOIC8. 3021的SCL是单向的，而不像 3020那样SDA和SCL都是双向的。
footprint SOIC_8W_5.9x7.3mm (SOIC-8 wide package. chip size:5.9x7.3mm)
pins: 1 VDD_A (power), 2 SDA_A (io), 3 SCL_A (in), 4 GND_A (power), 5 GND_B (power), 6 SCL_B (out), 7 SDA_B (io), 8 VDD_B (power)

## CA-IS3021S
designator U*
川土微,低功耗双向通讯 I2C 总线隔离器,2MHz, 3~5.5V, SOIC8. 3021的SCL是单向的，而不像 3020那样SDA和SCL都是双向的。
footprint SOIC8_HV (ISO1211 or others package. SOIC-8)
pins: 1 VDD_A (power), 2 SDA_A (io), 3 SCL_A (in), 4 GND_A (power), 5 GND_B (power), 6 SCL_B (out), 7 SDA_B (io), 8 VDD_B (power)

## CA-IS3720S
designator U*
CA-IS372x 高速双通道数字隔离器, 增强 ESD 功能，传输速率高达150Mbps。 SOIC-8， 高达 5KVRMS 的隔离电压。 两个正向通道
footprint SOIC8_HV (ISO1211 or others package. SOIC-8)
pins: 1 VDDA (power), 2 VI1 (in), 3 VI2 (in), 4 GNDA (power), 5 GNDB (power), 6 VO2 (out), 7 VO1 (out), 8 VDDB (power)

## CA-IS3721S
designator U*
CA-IS372x 高速双通道数字隔离器, 增强 ESD 功能，传输速率高达150Mbps。 SOIC-8， 高达 5KVRMS 的隔离电压。 一个正向通道一个反向通道
footprint SOIC8_HV (ISO1211 or others package. SOIC-8)
pins: 1 VDDA (power), 2 VI1 (in), 3 VO2 (out), 4 GNDA (power), 5 GNDB (power), 6 VI2 (in), 7 VO1 (out), 8 VDDB (power)

## CA-IS3722S
designator U*
CA-IS372x 高速双通道数字隔离器, 增强 ESD 功能，传输速率高达150Mbps。 SOIC-8， 高达 5KVRMS 的隔离电压。 一个正向通道一个反向通道。
footprint SOIC8_HV (ISO1211 or others package. SOIC-8)
pins: 1 VDDA (power), 2 VO1 (out), 3 VI2 (in), 4 GNDA (power), 5 GNDB (power), 6 VO2 (out), 7 VI1 (in), 8 VDDB (power)

## CH201-00ABR
designator U*, comment CH201
TDK Invensense,CH201 is a miniature, ultra-low power, long-range ultrasonic / Time-of-Flight (ToF) range sensor.
footprint CH201_LGA8 (TDK Invensense, 8-Pin LGA,3.5x3.5x1.26)
pins: 1 INT, 2 SCL, 3 SDA, 4 PROG, 5 VSS, 6 VDD, 7 AVDD, 8 ~{RST}

## CH340N
designator U*
南京沁恒USB串口芯片，8引脚（SOP-8）
footprint SOP-8 (Standard SOP-8 PAckage, shell:3.9mm width)
pins: 1 DP (io), 2 DM (io), 3 GND (power), 4 RTS, 5 VCC (power), 6 TXD (out), 7 RXD (in), 8 V3

## CH9340K
designator U*
USB Bridge-CDC(serial) Chip from WCH.
footprint ESSOP-10-WCH
pins: 0 ~{LOP}, 1 DP (io), 2 DM (io), 3 GND (power), 4 H_F, 5 ~{DTR}, 6 ~{RTS}, 7 VCC (power), 8 TXD (out), 9 RXD (in), 10 V3 (power)

## Circuit Breaker
designator SB*
Circuit Breaker
footprint JP2_SMD
pins: 1, 2

## Circuit Breaker_3P
designator SB*
Circuit Breaker
footprint JP3_SMD
pins: 1, 2, 3

## COB5730_3P
designator *
footprint COB5730 (A COB led a 5730 package)
pins: A, K, PAD

## CP2102N-A01-GQFN20
designator U*, comment CP2102N-GQFN20
The CP2102N devices, part of the USBXpress family, are designed to quickly add USB to your applications by eliminating / firmware complexity and reducing development time
footprint QFN-20_3x3 (silicon lab, QFN20, 3mmx3mm)
pins: 1 GPIO.1, 2 GPIO.0, 3 GND, 4 D+, 5 D-, 6 VDD, 7 VREGIN, 8 VBUS, 9 RSTb, 10 NC, 11 SUSPENDb, 12 GND, 13 WAKEUP, 14 SUSPEND, 15 CTS, 16 RTS, 17 RXD, 18 TXD, 19 GPIO.3, 20 GPIO.2, 21 PAD

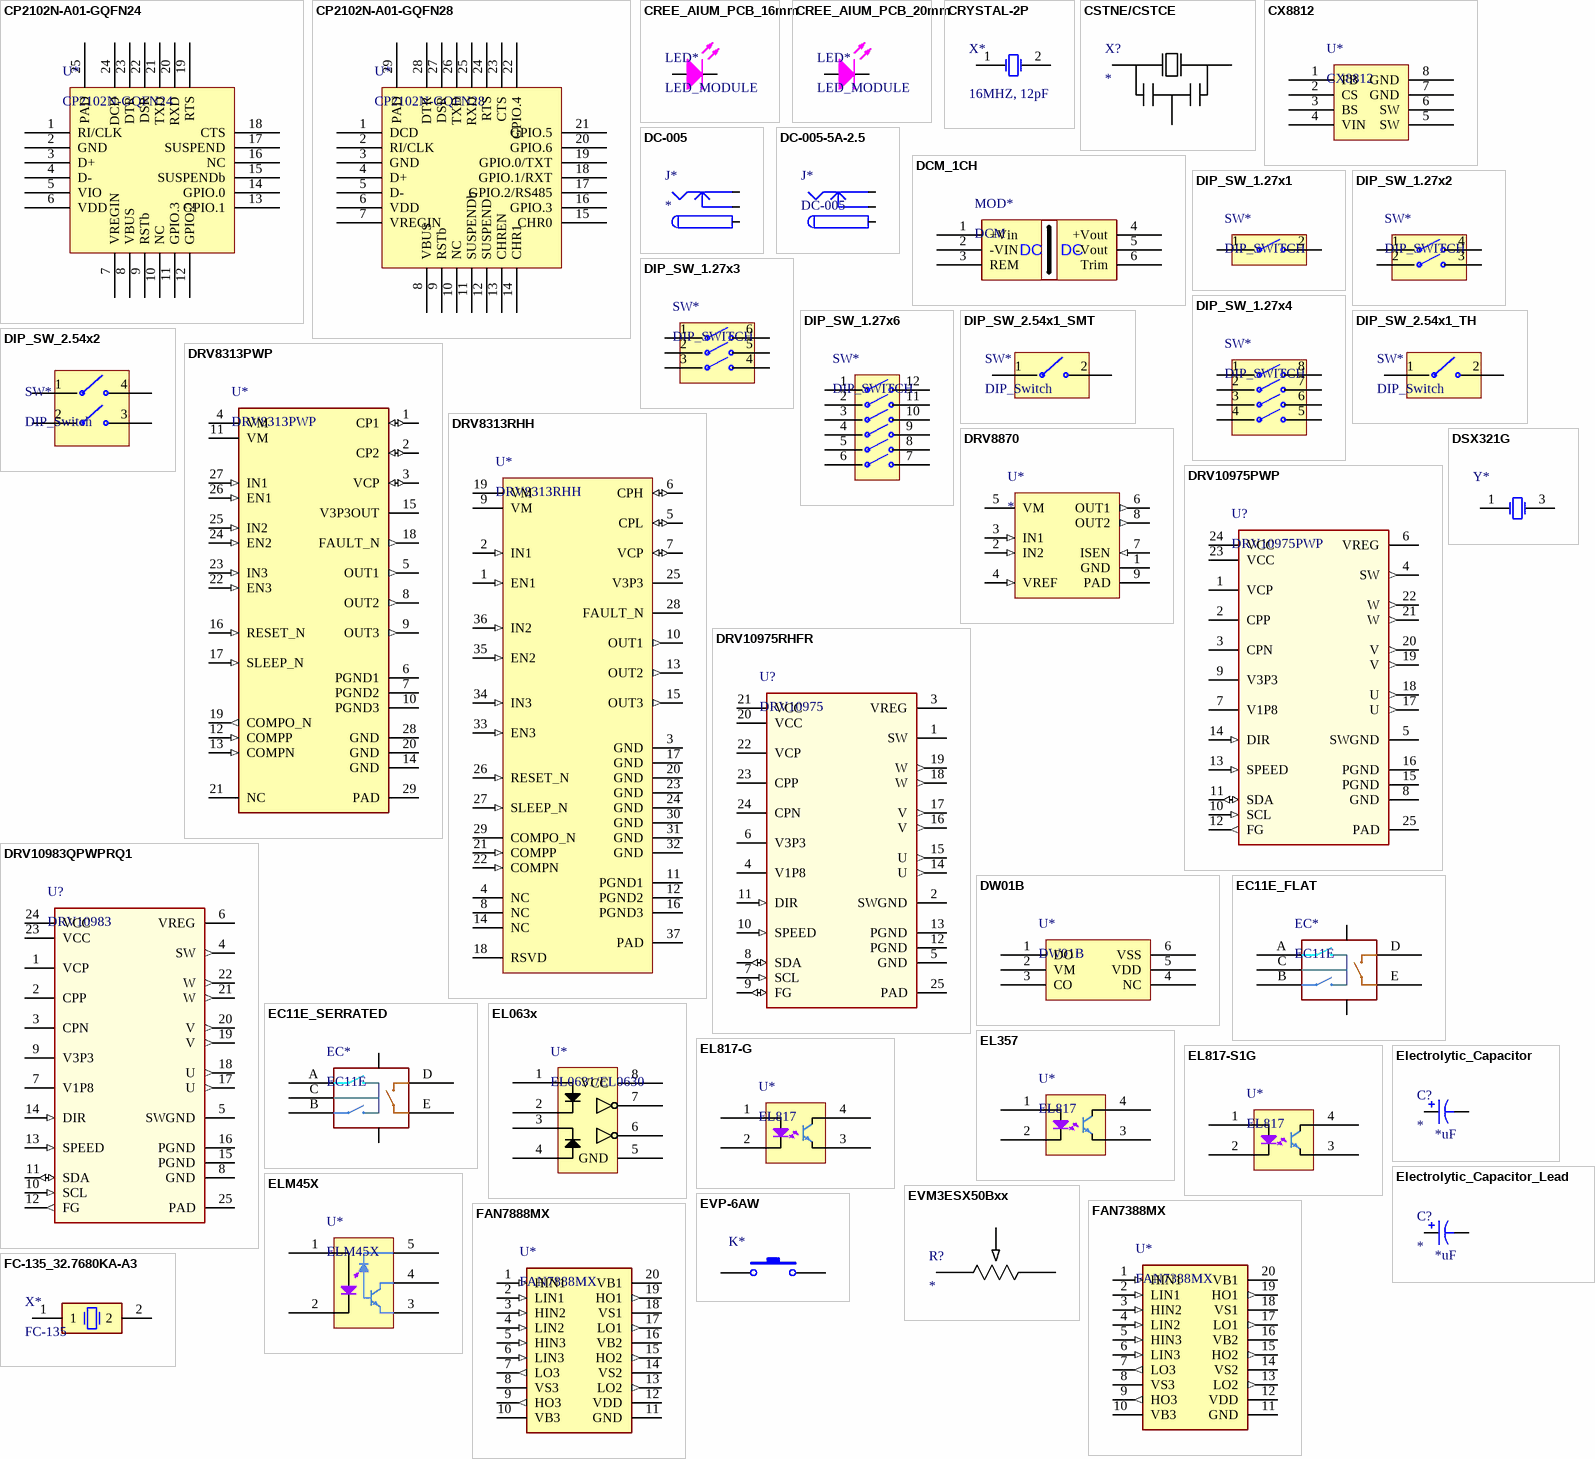
[diagram p2: symbols CP2102N-A01-GQFN24 to FC-135_32.7680KA-A3]

## CP2102N-A01-GQFN24
designator U*, comment CP2102N-GQFN24
The CP2102N devices, part of the USBXpress family, are designed to quickly add USB to your applications by eliminating / firmware complexity and reducing development time
footprint QFN-24_4x4 (silicon lab QFN-24)
pins: 1 RI/CLK, 2 GND, 3 D+, 4 D-, 5 VIO, 6 VDD, 7 VREGIN, 8 VBUS, 9 RSTb, 10 NC, 11 GPIO.3, 12 GPIO.2, 13 GPIO.1, 14 GPIO.0, 15 SUSPENDb, 16 NC, 17 SUSPEND, 18 CTS, 19 RTS, 20 RXD, 21 TXD, 22 DSR, 23 DTR, 24 DCD, 25 PAD

## CP2102N-A01-GQFN28
designator U*, comment CP2102N-GQFN28
The CP2102N devices, part of the USBXpress family, are designed to quickly add USB to your applications by eliminating / firmware complexity and reducing development time
footprint QFN-28-5x5
pins: 1 DCD, 2 RI/CLK, 3 GND, 4 D+, 5 D-, 6 VDD, 7 VREGIN, 8 VBUS, 9 RSTb, 10 NC, 11 SUSPENDb, 12 SUSPEND, 13 CHREN, 14 CHR1, 15 CHR0, 16 GPIO.3, 17 GPIO.2/RS485, 18 GPIO.1/RXT, 19 GPIO.0/TXT, 20 GPIO.6, 21 GPIO.5, 22 GPIO.4, 23 CTS, 24 RTS, 25 RXD, 26 TXD, 27 DSR, 28 DTR, 29 PAD

## CREE_AIUM_PCB_16mm
designator LED*, comment LED_MODULE
CREE LED STAR Board. 16mm
footprint CREE_LED_STAR_BOARD_16mm (CREE, LED Aluminum PCB, 16mm)
pins: 1 A, 2 K

## CREE_AIUM_PCB_20mm
designator LED*, comment LED_MODULE
CREE LED STAR Board. 20mm
footprint CREE_LED_STAR_BOARD_20mm (LED Aluminum PCB, 20mm)
pins: 1 A, 2 K

## CRYSTAL-2P
designator X*, comment value 16MHZ, 12pF  (hidden comment: XTAL)
crystal ,2P ,5032 or other 2P
footprint CRYSTAL-5032-2P
pins: 1 OSC1, 2 OSC2

## CSTNE/CSTCE
designator X?
Mura 3-Lead Ceramic Resonators(CERALOCK) with capcitor inside. 3.2mm*1.3mm*0.7mm; Manufacturer_Part_Number: CSTCE8M00G52-R0; Vendor: Murata; Built_By: EMA_UL_Team; C: Copyright (C) 2016 Accelerated Designs. All rights reserved; Value: Value
footprint CSTCE
pins: 1, 2, 3

## CX8812
designator U*
shenzhen chengxinwei  http://www.yxwic.com
pins: 1 FB, 2 CS, 3 BS, 4 VIN, 5 SW, 6 SW, 7 GND, 8 GND

## DC-005
designator J*
Power Connector DC-005
footprint DC-005 (DC Power Jack,  PCB Mount)
pins: 1 VIN, 2 GND1, 3 GND2

## DC-005-5A-2.5
designator J*, comment DC-005
XKB Connectivity,DC连接器 DC-005-5A-2.5 DC插座 W14.2xD9.0xH11,内芯2.5,5A 24V ,
footprint DC-005-5A-2.5 (DC Power Jack,  PCB Mount,XKB Connectivity)
pins: 1 VIN, 2 GND1, 3 GND2

## DCM_1CH
designator MOD*, comment DCM
One channel DC2DC Modular with trim pin.; ComponentLink1Description: TRACO DCM; ComponentLink1URL: https://www.tracopower.com/products/browse-by-category/category/dc-dc-converters/; ComponentLink2Description: MORNSUN; ComponentLink2URL: https://www.mornsun.cn/html/product/DCDC.html; ComponentLink3Description: SUPLET; ComponentLink3URL: http://www.suplet.com/
footprint DCM_1“x2“_1CH (DC2DC Modular Power, 1“x 2“(25.4mm x 50.8mm))
pins: 1 +Vin (power), 2 -VIN (power), 3 REM (power), 4 +Vout (power), 5 -Vout (power), 6 Trim (power)
text: DC

## DIP_SW_1.27x1
designator SW*, comment DIP_SWITCH
DIP Switch with 1 positions, 1.27 pitch.
footprint DIP-SW-1.27x1P-SMT
pins: 1 2, 2

## DIP_SW_1.27x2
designator SW*, comment DIP_SWITCH
DIP Switch with 2 positions, 1.27 pitch.
footprint DIP-SW-1.27x2P-SMT
pins: 1 2, 2, 3, 4

## DIP_SW_1.27x3
designator SW*, comment DIP_SWITCH
DIP Switch with 3 positions, 1.27 pitch.
footprint DIP-SW-1.27x3P-SMT
pins: 1 2, 2, 3, 4, 5, 6

## DIP_SW_1.27x4
designator SW*, comment DIP_SWITCH
DIP Switch with 4 positions, 1.27 pitch.
footprint DIP-SW-1.27x4P-SMT
pins: 1 2, 2, 3, 4, 5, 6, 7, 8

## DIP_SW_1.27x6
designator SW*, comment DIP_SWITCH
DIP Switch with 6 positions, 1.27 pitch.
footprint DIP-SW-1.27x6P-SMT
pins: 1 2, 2, 3, 4, 5, 6, 7, 8, 9, 10, 11, 12

## DIP_SW_2.54x1_SMT
designator SW*, comment DIP_Switch
DIP Switch with 2 positions, 2.54 pitch. Demo components is Omron_A6S-1102
footprint SOD-523 (TVS diode package)
pins: 1 2, 2

## DIP_SW_2.54x1_TH
designator SW*, comment DIP_Switch
DIP Switch with 2 positions, 2.54 pitch. It have two different package
footprint DIP-SW-2.54x1P-TH (DIP Slider,6.7x4.1,W7.62,P2.54)
footprint DIP-SW-2.54x1P-TH_LARGE (DIP Slider, 9.78x4.72,W7.62,P2.54)
pins: 1 2, 2

## DIP_SW_2.54x2
designator SW*, comment DIP_Switch
DIP Switch with 2 positions, 2.54 pitch. Demo components is Omron_A6S-2102
footprint DIP-SW-2.54x2P-SMT
pins: 1 2, 2, 3, 4

## DRV8313PWP
designator U*
TI, 65-V max, 3-A peak 3-phase motor driver, PWP Package (HTSSOP-28)
footprint TI_PWP0028C (TI, HTSSOP-28 with EP, PWP0028C, 9.70 mm × 4.40 mm)
pins: 1 CP1 (io), 2 CP2 (io), 3 VCP (io), 4 VM (power), 5 OUT1 (out), 6 PGND1 (power), 7 PGND2 (power), 8 OUT2 (out), 9 OUT3 (out), 10 PGND3 (power), 11 VM (power), 12 COMPP (in), 13 COMPN (in), 14 GND (power), 15 V3P3OUT (power), 16 RESET_N (in), 17 SLEEP_N (in), 18 FAULT_N (out), 19 COMPO_N (out), 20 GND (power), 21 NC, 22 EN3 (in), 23 IN3 (in), 24 EN2 (in), 25 IN2 (in), 26 EN1 (in), 27 IN1 (in), 28 GND (power), 29 PAD (power)

## DRV8313RHH
designator U*
TI, 65-V max, 3-A peak 3-phase motor driver, RHH Package (VQFN-28)
footprint TI_RHH0036C (TI, VQFN-36, RHH0036C, 6mm x 6mm)
pins: 1 EN1 (in), 2 IN1 (in), 3 GND (power), 4 NC, 5 CPL (io), 6 CPH (io), 7 VCP (io), 8 NC, 9 VM (power), 10 OUT1 (out), 11 PGND1 (power), 12 PGND2 (power), 13 OUT2 (out), 14 NC, 15 OUT3 (out), 16 PGND3 (power), 17 GND (power), 18 RSVD, 19 VM (power), 20 GND (power), 21 COMPP (in), 22 COMPN (in), 23 GND (power), 24 GND (power), 25 V3P3 (power), 26 RESET_N (in), 27 SLEEP_N (in), 28 FAULT_N (oc), 29 COMPO_N (oc), 30 GND (power), 31 GND (power), 32 GND (power), 33 EN3 (in), 34 IN3 (in), 35 EN2 (in), 36 IN2 (in), 37 PAD (power)

## DRV8870
designator U*
Brush motor driver IC from TI.
footprint DDA0008H_L
footprint DDA0008H_M
footprint DDA0008H_N
footprint DDA0008E (TI SOPB with EPAD Package:DDA(R-PDSO-G8),4.9x6.0)
pins: 1 GND (power), 2 IN2 (in), 3 IN1 (in), 4 VREF (in), 5 VM (power), 6 OUT1 (out), 7 ISEN (in), 8 OUT2 (out), 9 PAD (power)

## DRV10975PWP
designator U?
The DRV10975 device is a three-phase sensorless motor driver with integrated power MOSFETs, which can provide continuous drive current up to 1.5 A. The device is specifically designed for cost-sensitive, low-noise, low-external-component-count applications. / The DRV10975 device uses a proprietary sensorless control scheme to provide continuous sinusoidal drive, which significantly reduces the pure tone acoustics that typically occur as a result of commutation. The interface to the device is designed to be simple and flexible. The motor can be controlled directly through PWM, analog, or I2C inputs. Motor speed feedback is available through either the FG pin or I2C. / The DRV10975 device features an integrated step-down regulator to efficiently step down the supply voltage to either 5 or 3.3 V for powering both internal and external circuits. The device is available in either a sleep mode or a standby mode version to conserve power when the motor is not running. The standby mode (4.5-mA) version leaves the regulator running and the sleep mode (80-µA) version shuts it off. Use the standby mode version in applications where the regulator is used to power an external microcontroller.; Mfr_Name: Texas Instruments; TYPE: TYPE; RefDes: RefDes
footprint PWP0024B
pins: 1 VCP (power), 2 CPP (power), 3 CPN (power), 4 SW (out), 5 SWGND (power), 6 VREG (power), 7 V1P8 (power), 8 GND (power), 9 V3P3 (power), 10 SCL (in), 11 SDA (io), 12 FG (out), 13 SPEED (in), 14 DIR (in), 15 PGND (power), 16 PGND (power), 17 U (out), 18 U (out), 19 V (out), 20 V (out), 21 W (out), 22 W (out), 23 VCC (power), 24 VCC (power), 25 PAD (power)

## DRV10975RHFR
designator U?, comment DRV10975
The DRV10975 device is a three-phase sensorless motor driver with integrated power MOSFETs, which can provide continuous drive current up to 1.5 A. The device is specifically designed for cost-sensitive, low-noise, low-external-component-count applications. / The DRV10975 device uses a proprietary sensorless control scheme to provide continuous sinusoidal drive, which significantly reduces the pure tone acoustics that typically occur as a result of commutation. The interface to the device is designed to be simple and flexible. The motor can be controlled directly through PWM, analog, or I2C inputs. Motor speed feedback is available through either the FG pin or I2C. / The DRV10975 device features an integrated step-down regulator to efficiently step down the supply voltage to either 5 or 3.3 V for powering both internal and external circuits. The device is available in either a sleep mode or a standby mode version to conserve power when the motor is not running. The standby mode (4.5-mA) version leaves the regulator running and the sleep mode (80-µA) version shuts it off. Use the standby mode version in applications where the regulator is used to power an external microcontroller.; Mfr_Name: Texas Instruments; TYPE: TYPE; RefDes: RefDes
footprint RHF0024A
pins: 1 SW (power), 2 SWGND (power), 3 VREG (power), 4 V1P8 (power), 5 GND (power), 6 V3P3 (power), 7 SCL (in), 8 SDA (io), 9 FG (io), 10 SPEED (in), 11 DIR (in), 12 PGND (power), 13 PGND (power), 14 U (out), 15 U (out), 16 V (out), 17 V (out), 18 W (out), 19 W (out), 20 VCC (power), 21 VCC (power), 22 VCP (power), 23 CPP (power), 24 CPN (power), 25 PAD (power)

## DRV10983QPWPRQ1
designator U?, comment DRV10983
The DRV10983-Q1 device is a 3-phase sensorless motor driver with integrated power MOSFETs, which can provide continuous drive current up to 2 A. The device is specifically designed for cost-sensitive, low-noise, low-external-component-count fan and pump applications. / The DRV10983-Q1 device preserves register setting down to 4.5 V and delivers current to the motor with supply voltage as low as 6.2 V. If the power supply voltage is higher than 28 V, the device stops driving the motor and protects the DRV10983-Q1 circuitry. This function is able to handle a load dump condition up to 45 V.; Mfr_Name: Texas Instruments; RefDes: RefDes; Type: Type
footprint PWP24_2P4X5P16_TEX
pins: 1 VCP (power), 2 CPP (power), 3 CPN (power), 4 SW (out), 5 SWGND (power), 6 VREG (power), 7 V1P8 (power), 8 GND (power), 9 V3P3 (power), 10 SCL (in), 11 SDA (io), 12 FG (out), 13 SPEED (in), 14 DIR (in), 15 PGND (power), 16 PGND (power), 17 U (out), 18 U (out), 19 V (out), 20 V (out), 21 W (out), 22 W (out), 23 VCC (power), 24 VCC (power), 25 PAD (power)

## DSX321G
designator Y*, comment crystal*  (value not drawn)
Value: 8Mhz
footprint crystal-3225
pins: 1 OSC1, 3 OSC2

## DW01B
designator U*
MORESEMI
footprint SOT23-6L
footprint SOT23-6AN (SOT23, 6-Leads, Body 2.9x1.6mm, Pitch 0.95mm, Lead Span 2.5mm, IPC Medium Density)
footprint SOT23-6AL
pins: 1 DO, 2 VM, 3 CO, 4 NC, 5 VDD, 6 VSS

## EC11E_FLAT
designator EC*, comment EC11E
ALPS, EC11E Encorder, Flat Shaft
footprint EC11E_FLAT
pins: A (power), B (power), C (power), D (power), E (power), H1 (power), H2 (power)

## EC11E_SERRATED
designator EC*, comment EC11E
ALPS, EC11E Encorder,serrated shaft
footprint EC11E_SERRATED
pins: A (power), B (power), C (power), D (power), E (power), H1 (power), H2 (power)

## EL063x
designator U*, comment EL0631/EL0630
8 PIN SOP DUAL CHANNEL HIGH SPEED / 10MBit/s LOGIC GATE PHOTOCOUPLER / EL063X series
footprint Everlight-Optocoupler-SO8 (everlight Optocoupler Package SO8: 4.88×5.85×3.18)
pins: 1 1A, 2 1K, 3 2K, 4 2A, 5 GND, 6 2C, 7 1E, 8 VCC

## EL357
designator U*, comment EL817
everlight, Photo Coupler, EL357, SOP-4 package
footprint OC-SOP-4 (PHOTOCOUPLER package sop-4)
pins: 1 A, 2 K, 3 S, 4 C

## EL817-G
designator U*, comment EL817
everlight, Photo Coupler, EL817, DIP-4 package
footprint OC-DIP4 (PHOTOCOUPLER package DIP-4)
pins: 1 A, 2 K, 3 S, 4 C

## EL817-S1G
designator U*, comment EL817
everlight, Photo Coupler, EL817, SMD DIP-4 package
footprint OC-DIP4-SMD (PHOTOCOUPLER package DIP-4, but SMD)
pins: 1 A, 2 K, 3 S, 4 C

## Electrolytic_Capacitor
designator C?  value *uF
Panasonic Electrolytic Capacitor with SMD footprints.Imported from UL. 6.3*7.7，8*6.2，8*10.2. Blueprint:EEETG1V330P / EEE0JA331XAP.; Built_By: EMA_UL_Team; C: Copyright (C) 2015 Accelerated Designs. All rights reserved; Vendor: Panasonic; Manufacturer_Part_Number: EEETG1V330P
footprint CAP_PAN_E (Panasonic CAP SMD, φ8.0×6.2 mm)
footprint CAP_PAN_D8 (Panasonic CAP SMD, φ6.3×7.7 mm)
footprint CAP_PAN_F (Panasonic CAP SMD,φ8.0×10.2 mm)
footprint CAP_PAN_D (ACAP SMD, φ6.3×5.8 mm)
footprint CAP_PAN_C (ACAP SMD, φ5.0×5.8 mm)
footprint CAP_PAN_G (Panasonic CAP SMD,φ10.0×10.2 mm)
footprint CAP_PAN_K16 (Panasonic CAP SMD, φ18.0×16.5 mm)
footprint CAP_PAN_C (ACAP SMD, φ5.0×5.8 mm)
footprint CAP_PAN_B (ACAP SMD, φ4.0×5.8 mm)
footprint CAP_PAN_F8 (Panasonic CAP SMD, F8, φ10.0×7.9 mm)
pins: 1, 2

## Electrolytic_Capacitor_Lead
designator C?  value *uF
Panasonic Electrolytic Capacitor with lead.Imported from UL. 6.3*11.2,8*11.2,12.5*20; Manufacturer_Part_Number: ECA1CM221; Built_By: EMA_UL_Team; C: Copyright (C) 2015 Accelerated Designs. All rights reserved; Vendor: Panasonic
footprint CAP_6.3 X 11.2
footprint CAP_10 X 16 (Panasonic 10 X 16 with lead)
footprint CAP_8 x 11.2 (Panasonic CAP LineIn  8*11.2)
footprint CAP_12.5 X 20 (Panasonic 12.5X20 with lead)
footprint CAP_10 X 12.5 (Panasonic 10 X 12.5 with lead)
footprint CAP_5 X 7 (Panasonic 5X7 with lead)
footprint CAP_12.5 X 25
pins: 1, 2

## ELM45X
designator U*
everlight, 5 PIN SOP HIGH SPEED 1Mbit/s TRANSISTOR PHOTOCOUPLER ELM45X series
footprint OC-SOP-5 (PHOTOCOUPLER package sop-5)
pins: 1 A, 2 K, 3 S, 4 C, 5 VCC

## EVM3ESX50Bxx
designator R?
Imported; Manufacturer_Part_Number: EVM3YSX50B53; Vendor: Panasonic; Built_By: EMA_UL_Team; C: Copyright (C) 2015 Accelerated Designs. All rights reserved; Value: Value
footprint POT_EVM3E
pins: 1, 2, 3

## EVP-6AW
designator K*, comment Tactile Switches  (value not drawn)
Panasonic EVP-6AW  Tactile Switches. Type:EVPAW or EVP6A. 3.0 mm × 2.0 mm SMD
footprint EVP-6AW (panasonic EVP-6AW series Tactile Switches, 3.0 mm × 2.0 mm SMD)
pins: 1, 2

## FAN7388MX
designator U*
Onsemi, FAN7388MX, / 625V, 3.3/5V input logic compatible, 0.65/0.35A sink/source current, 3-Phase Half-Bridge Gate-Drive IC. SOIC-20 package
footprint Onsemi_SOIC-20 (Onsemi, SOIC-20, 12.8mm x 7.5mm， 1.27mm gap)
pins: 1 HIN1 (in), 2 LIN1 (in), 3 HIN2 (in), 4 LIN2 (in), 5 HIN3 (in), 6 LIN3 (in), 7 LO3 (out), 8 VS3, 9 HO3 (out), 10 VB3, 11 GND (power), 12 VDD (power), 13 LO2 (out), 14 VS2, 15 HO2 (out), 16 VB2, 17 LO1 (out), 18 VS1, 19 HO1 (out), 20 VB1 (power)

## FAN7888MX
designator U*
Onsemi, FAN7888MX, / 225V, 3.3/5V input logic compatible, 0.65/0.35A sink/source current, 3-Phase Half-Bridge Gate-Drive IC. SOIC-20 package
footprint Onsemi_SOIC-20 (Onsemi, SOIC-20, 12.8mm x 7.5mm， 1.27mm gap)
pins: 1 HIN1 (in), 2 LIN1 (in), 3 HIN2 (in), 4 LIN2 (in), 5 HIN3 (in), 6 LIN3 (in), 7 LO3 (out), 8 VS3, 9 HO3 (out), 10 VB3, 11 GND (power), 12 VDD (power), 13 LO2 (out), 14 VS2, 15 HO2 (out), 16 VB2, 17 LO1 (out), 18 VS1, 19 HO1 (out), 20 VB1 (power)

## FC-135_32.7680KA-A3
designator X*, comment FC-135
EPSON, FC-135, 32.768kHZ; Manufacturer_Name: Epson Timing; Manufacturer_Part_Number: FC-135 32.7680KA-A3; Datasheet Link: https://componentsearchengine.com/Datasheets/1/FC-135 32.7680KA-A3.pdf; Height: 0mm; Mouser Part Number: 732-FC135-32.76KAA3; Mouser Price/Stock: https://www.mouser.com/Search/Refine.aspx?Keyword=732-FC135-32.76KAA3
footprint FC-135 (epson device, 32.768kHz, fc-135 type)
pins: 1, 2

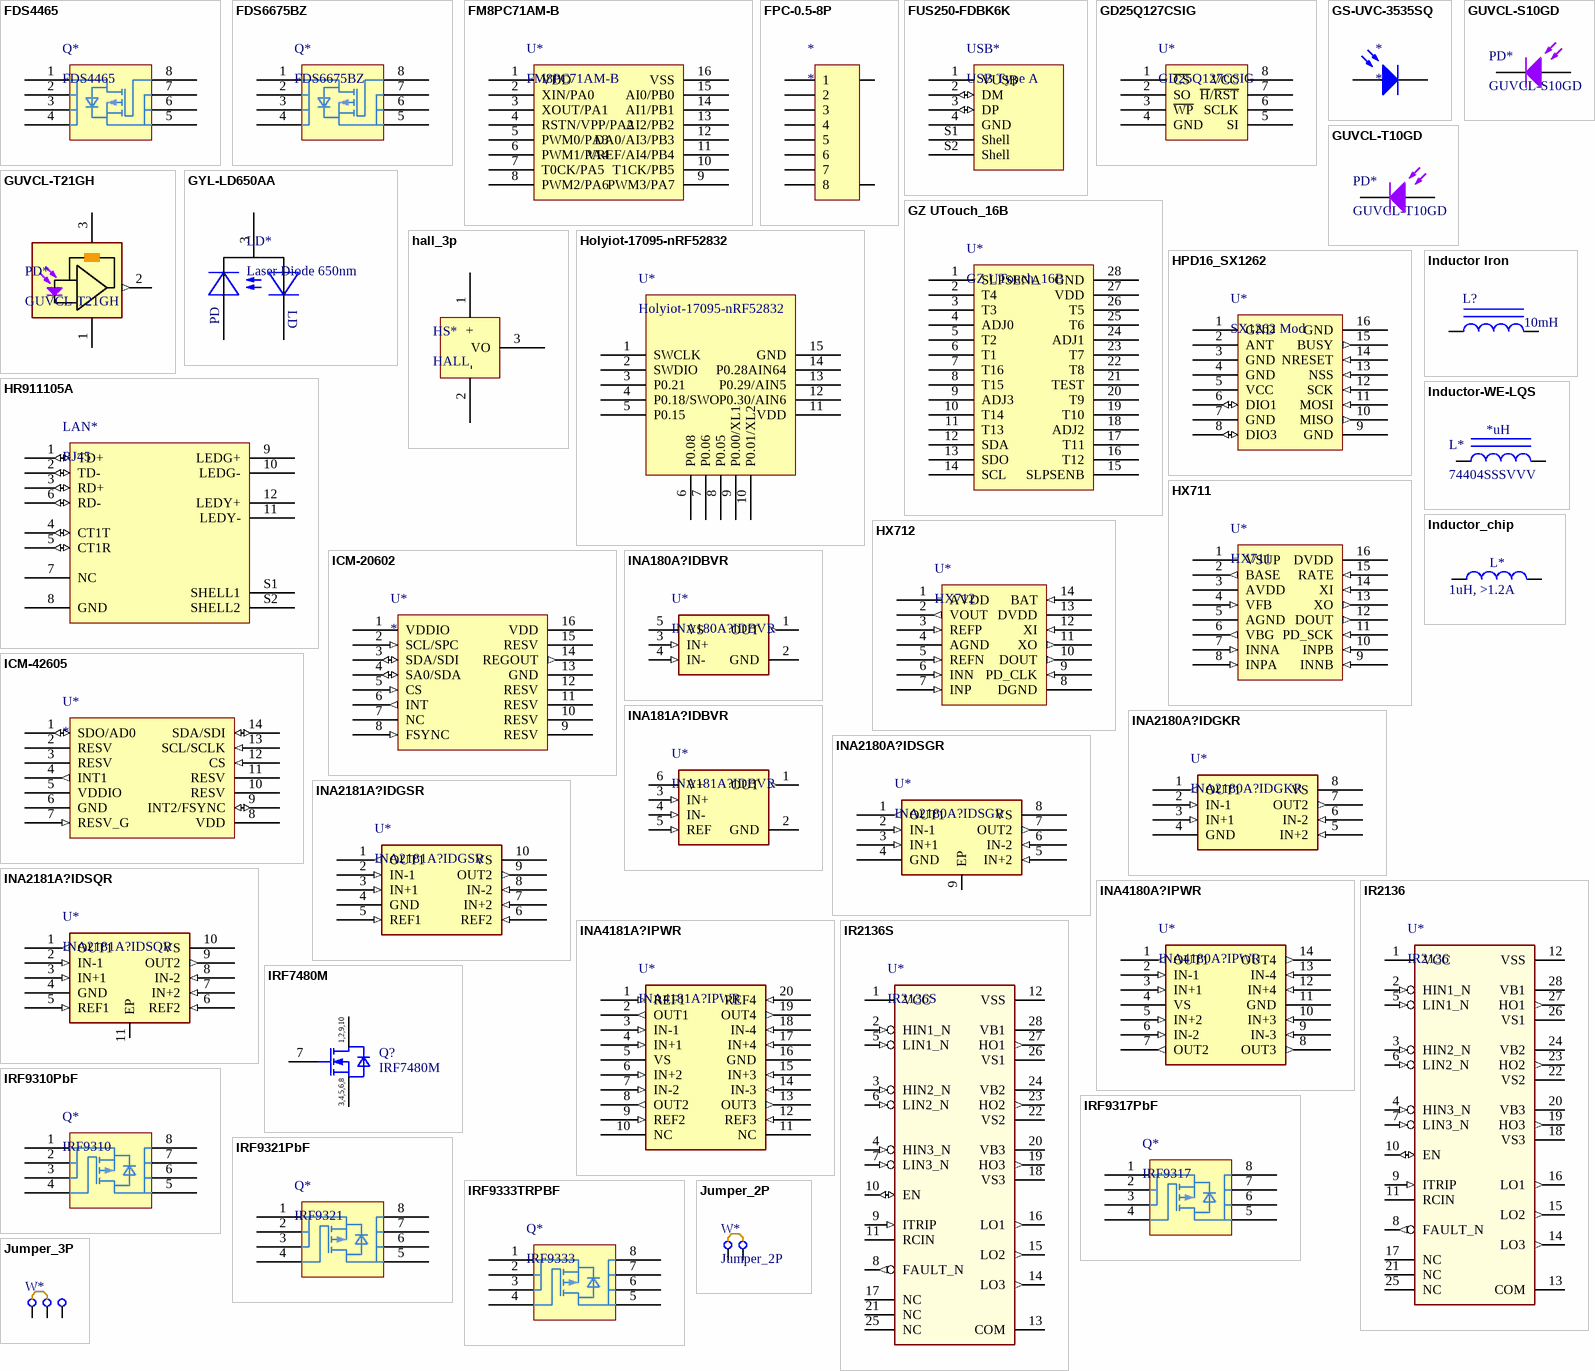
[diagram p3: symbols FDS4465 to Jumper_3P]

## FDS4465
designator Q*
FDS4465 / P-Channel 1.8V Specified / POWERTRENCH® MOSFET from  onsemi. -20V，-13.5A，8.5mΩ
footprint SOIC_8_MOS (ONSEMI MOSFET SOIC-8)
pins: 1 D, 2 D, 3 D, 4 D, 5 S, 6 S, 7 S, 8 G

## FDS6675BZ
designator Q*
FDS6675BZ / Single P-Channel, POWERTRENCH -30 V, -11 A, 13 mΩ from  onsemi.
footprint SOIC_8_MOS (ONSEMI MOSFET SOIC-8)
pins: 1 D, 2 D, 3 D, 4 D, 5 S, 6 S, 7 S, 8 G

## FM8PC71AM-B
designator U*
远翔Feeling Technology的8位单片机
footprint SOP-16_N (16-Pin Small Outline Integrated Circuit 1.27 mm Pitch, IPC Medium Density)
footprint SOP-16_M (16-Pin Small Outline Integrated Circuit 1.27 mm Pitch, IPC Low Density)
footprint SOP-16_L (16-Pin Small Outline Integrated Circuit 1.27 mm Pitch, IPC High Density)
pins: 1 VDD, 2 XIN/PA0, 3 XOUT/PA1, 4 RSTN/VPP/PA2, 5 PWM0/PA3, 6 PWM1/PA4, 7 T0CK/PA5, 8 PWM2/PA6, 9 PWM3/PA7, 10 T1CK/PB5, 11 VREF/AI4/PB4, 12 DA0/AI3/PB3, 13 AI2/PB2, 14 AI1/PB1, 15 AI0/PB0, 16 VSS

## FPC-0.5-8P
designator *
footprint FPC-0.5-8P (A common FPC connecotor with 0.5 gap and 8 positions, 3d model come from molex 528920833)
pins: 1, 2, 3, 4, 5, 6, 7, 8, PAD1, PAD2

## FUS250-FDBK6K
designator USB*, comment USB Type A
USB Type A Connector, FUS250-FDBK6K, from  TXGA, 90°, DIP
footprint FUS250-FDBK6K (USB TYPE A connector. 90° DIP , TXGA(特思嘉))
pins: 1 VUSB (power), 2 DM (io), 3 DP (io), 4 GND (power), S1 Shell (power), S2 Shell (power)

## GD25Q127CSIG
designator U*
GigaDevice Serial NOR Flash, 128MBits, 104MHz, 2.7V~3.6V,SOP8 208mil
footprint SOIC8_208MIL (SPI-FLASH: SOIC8-208mil or SOP-208mil)
pins: 1 ~{CS}, 2 SO, 3 ~{WP}, 4 GND, 5 SI, 6 SCLK, 7 ~{H}/~{RST}, 8 VCC

## GS-UVC-3535SQ
designator *
footprint GS-UVC-3535SQ (UVC sense,Manufactured by GaNo Optoelectronics Inc. Zhenjiang, China)
pins: 1 A, 2 K

## GUVCL-S10GD
designator PD*
GENUV, GUVCL-S10GD, UV-C Photodiodes. Spectral Detection Range: 230nm~320nm. About 74nA photo current for 1mw/cm2. 3535 package
footprint GUVCL-S10GD (GENUV sensor package:3535)
pins: 1 K, 2 A

## GUVCL-T10GD
designator PD*
GENUV, GUVCL-T10GD, UV-C Photodiodes. Spectral Detection Range: 230nm~320nm. About 65nA photo current for 1mw/cm2. TO-46 CAN with 2leads
footprint TO-46-2 (TO-46 CAN with 2PIN)
pins: 1 K, 2 A

## GUVCL-T21GH
designator PD*
GENUV, GUVCL-T21GH, UV-C Photodiodes with opa inside. Spectral Detection Range: 230nm~320nm. About 65nA photo current for 1mw/cm2. TO-46 CAN with 2leads
footprint TO-5-3 (TO-45 CAN with 3PIN)
pins: 1 GND (power), 2 VOUT (out), 3 VCC (power)

## GYL-LD650AA
designator LD*, comment Laser Diode 650nm
深圳长正远大光电科技的5mW， 650nm的激光二极管, 5.6 CAN with 3Pins
footprint TO-56 (Footprint for Laser Diode with φ5.6 CAN)
pins: 1 LD, 2 PD, 3 Case

## GZ UTouch_16B
designator U*
UTouch_16B.This is a touch-sense IC of GuangZhou U-tek Microelectronics Technology.
footprint SSOP-28 (SSOP, Plastic; 28 Leads; Body Width 5.2 mm; Pitch 0.65 mm)
pins: 1 SLPSENA, 2 T4, 3 T3, 4 ADJ0, 5 T2, 6 T1, 7 T16, 8 T15, 9 ADJ3, 10 T14, 11 T13, 12 SDA, 13 SDO, 14 SCL, 15 SLPSENB, 16 T12, 17 T11, 18 ADJ2, 19 T10, 20 T9, 21 TEST, 22 T8, 23 T7, 24 ADJ1, 25 T6, 26 T5, 27 VDD, 28 GND

## hall_3p
designator HS*, comment HALL
Hall sensor with 3pins, like 3144E. Have 3 type packages: SOT23-3, SOT89-3 and TO-92(sip)
footprint HALL_SOT23W-3 (Allegro Microsystems SOT23W-3 Package, LH Package)
footprint HALL_SOT89-3 (Allegro Microsystems SOT89-3 Package, LT Package)
footprint HALL_TO92-3 (Allegro Microsystems TO92-3 (sip) Package, UA Package)
pins: 1 +, 2 -, 3 VO

## Holyiot-17095-nRF52832
designator U*
Holyiot, nRF52832, 9.4*9.5
footprint Holyiot-17095 -nRF52832 (Nrf52832 module from Holyiot, width:9.4mm, Length:9.25mm)
pins: 1 SWCLK, 2 SWDIO, 3 P0.21, 4 P0.18/SWO, 5 P0.15, 6 P0.08, 7 P0.06, 8 P0.05, 9 P0.00/XL1, 10 P0.01/XL2, 11 VDD, 12 P0.30/AIN6, 13 P0.29/AIN5, 14 P0.28AIN64, 15 GND

## HPD16_SX1262
designator U*, comment SX1262 Mod
A SX1262 model from Shenzhen HPDTek named HPD16
footprint HPD16
pins: 1 GND (power), 2 ANT, 3 GND (power), 4 GND (power), 5 VCC (power), 6 DIO1 (io), 7 GND (power), 8 DIO3 (io), 9 GND (power), 10 MISO (out), 11 MOSI (in), 12 SCK (in), 13 NSS (in), 14 NRESET (in), 15 BUSY (out), 16 GND (power)

## HR911105A
designator LAN*, comment RJ45
Single Port RJ45 Connector from HanRun with Integrated Magnetics and LED for 10/100Base-T NIC Applications
footprint HR911105A (HANRUN HR911105A)
pins: 1 TD+ (io), 2 TD- (io), 3 RD+ (io), 4 CT1T (io), 5 CT1R (io), 6 RD- (io), 7 NC, 8 GND (power), 9 LEDG+, 10 LEDG-, 11 LEDY-, 12 LEDY+, S1 SHELL1, S2 SHELL2

## HX711
designator U*
Avia ADC chip, a 24-bits adc for load-cell uaage. Package is SDP-16L
footprint SOP-16_L (16-Pin Small Outline Integrated Circuit 1.27 mm Pitch, IPC High Density)
pins: 1 VSUP (power), 2 BASE (out), 3 AVDD (power), 4 VFB (in), 5 AGND (power), 6 VBG (out), 7 INNA (in), 8 INPA (in), 9 INNB (in), 10 INPB (in), 11 PD_SCK (in), 12 DOUT (out), 13 XO (out), 14 XI (in), 15 RATE (in), 16 DVDD (power)

## HX712
designator U*
Aviaic ADC chip, a 24-bits ADC with Load-cell Power supply switch and Battery voltage detection for weight sensor. Package is SOP-14L
footprint SOP-14_L (16-Pin Small Outline Integrated Circuit 1.27 mm Pitch, IPC High Density)
pins: 1 AVDD (power), 2 VOUT (out), 3 REFP (in), 4 AGND (power), 5 REFN (in), 6 INN (in), 7 INP (in), 8 DGND (power), 9 PD_CLK (in), 10 DOUT (out), 11 XO (out), 12 XI (in), 13 DVDD (power), 14 BAT (in)

## ICM-20602
designator U*
The ICM-20602 is a 6-axis MotionTracking device that / combines a 3-axis gyroscope, 3-axis accelerometer, in a small / 3 mm x 3 mm x 0.75 mm (16-pin LGA) package.
footprint LGA16-3x3x0.75
footprint LGA16-L-3x3x0.75 (large package for manual solder)
pins: 1 VDDIO, 2 SCL/SPC (in), 3 SDA/SDI (io), 4 SA0/SDA (io), 5 CS (in), 6 INT (out), 7 NC, 8 FSYNC (in), 9 RESV, 10 RESV, 11 RESV, 12 RESV, 13 GND (power), 14 REGOUT (out), 15 RESV, 16 VDD (power)